# EAGLE library part WT32-ETH01 (library WT32-ETH01)
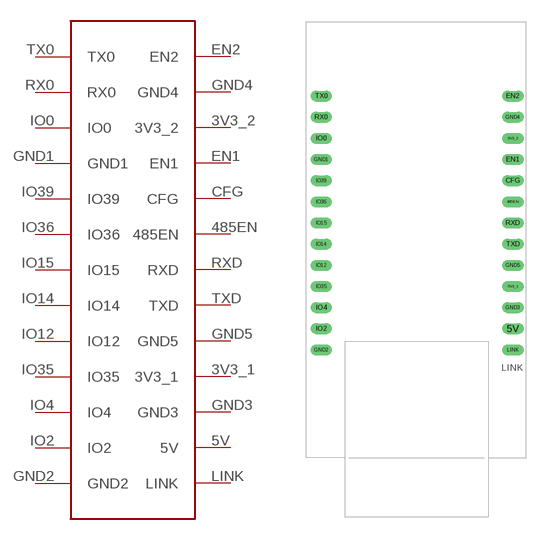
[diagram p0: symbol with the pads of WT32_ETH01; footprint WT32_ETH01]

Designator prefix -

## WT32-ETH01  [WT32_ETH01]
3V3_1  3V3_1
3V3_2  3V3_2
5V  5V
485EN  485EN
CFG  CFG
EN1  EN1
EN2  EN2
GND1  GND1
GND2  GND2
GND3  GND3
GND4  GND4
GND5  GND5
IO0  IO0
IO2  IO2
IO4  IO4
IO12  IO12
IO14  IO14
IO15  IO15
IO35  IO35
IO36  IO36
IO39  IO39
LINK  LINK
RX0  RX0
RXD  RXD
TX0  TX0
TXD  TXD

## Footprint WT32_ETH01 (pad centres in mm)
drill 0.8 long: 3V3_1 23,7.62; 3V3_2 23,25.4; 5V 23,2.54; 485EN 23,17.78; CFG 23,20.32; EN1 23,22.86; EN2 23,30.48; GND1 0,22.86; GND2 0,0; GND3 23,5.08; GND4 23,27.94; GND5 23,10.16; IO0 0,25.4; IO2 0,2.54; IO4 0,5.08; IO12 0,10.16; IO14 0,12.7; IO15 0,15.24; IO35 0,7.62; IO36 0,17.78; IO39 0,20.32; LINK 23,0; RX0 0,27.94; RXD 23,15.24; TX0 0,30.48; TXD 23,12.7